# Altium footprint library SlaveLib.PcbLib: 14 footprints
Each footprint in its own frame and in the unit in brackets; x right, y up, seen from the top. Pads: shape width x height; smd on the part's side, far side on the other; paste and mask are expansions set on the pad; w line width, h text height; cw(c..) or ccw(c..) is an arc to the next point about the centre after c.
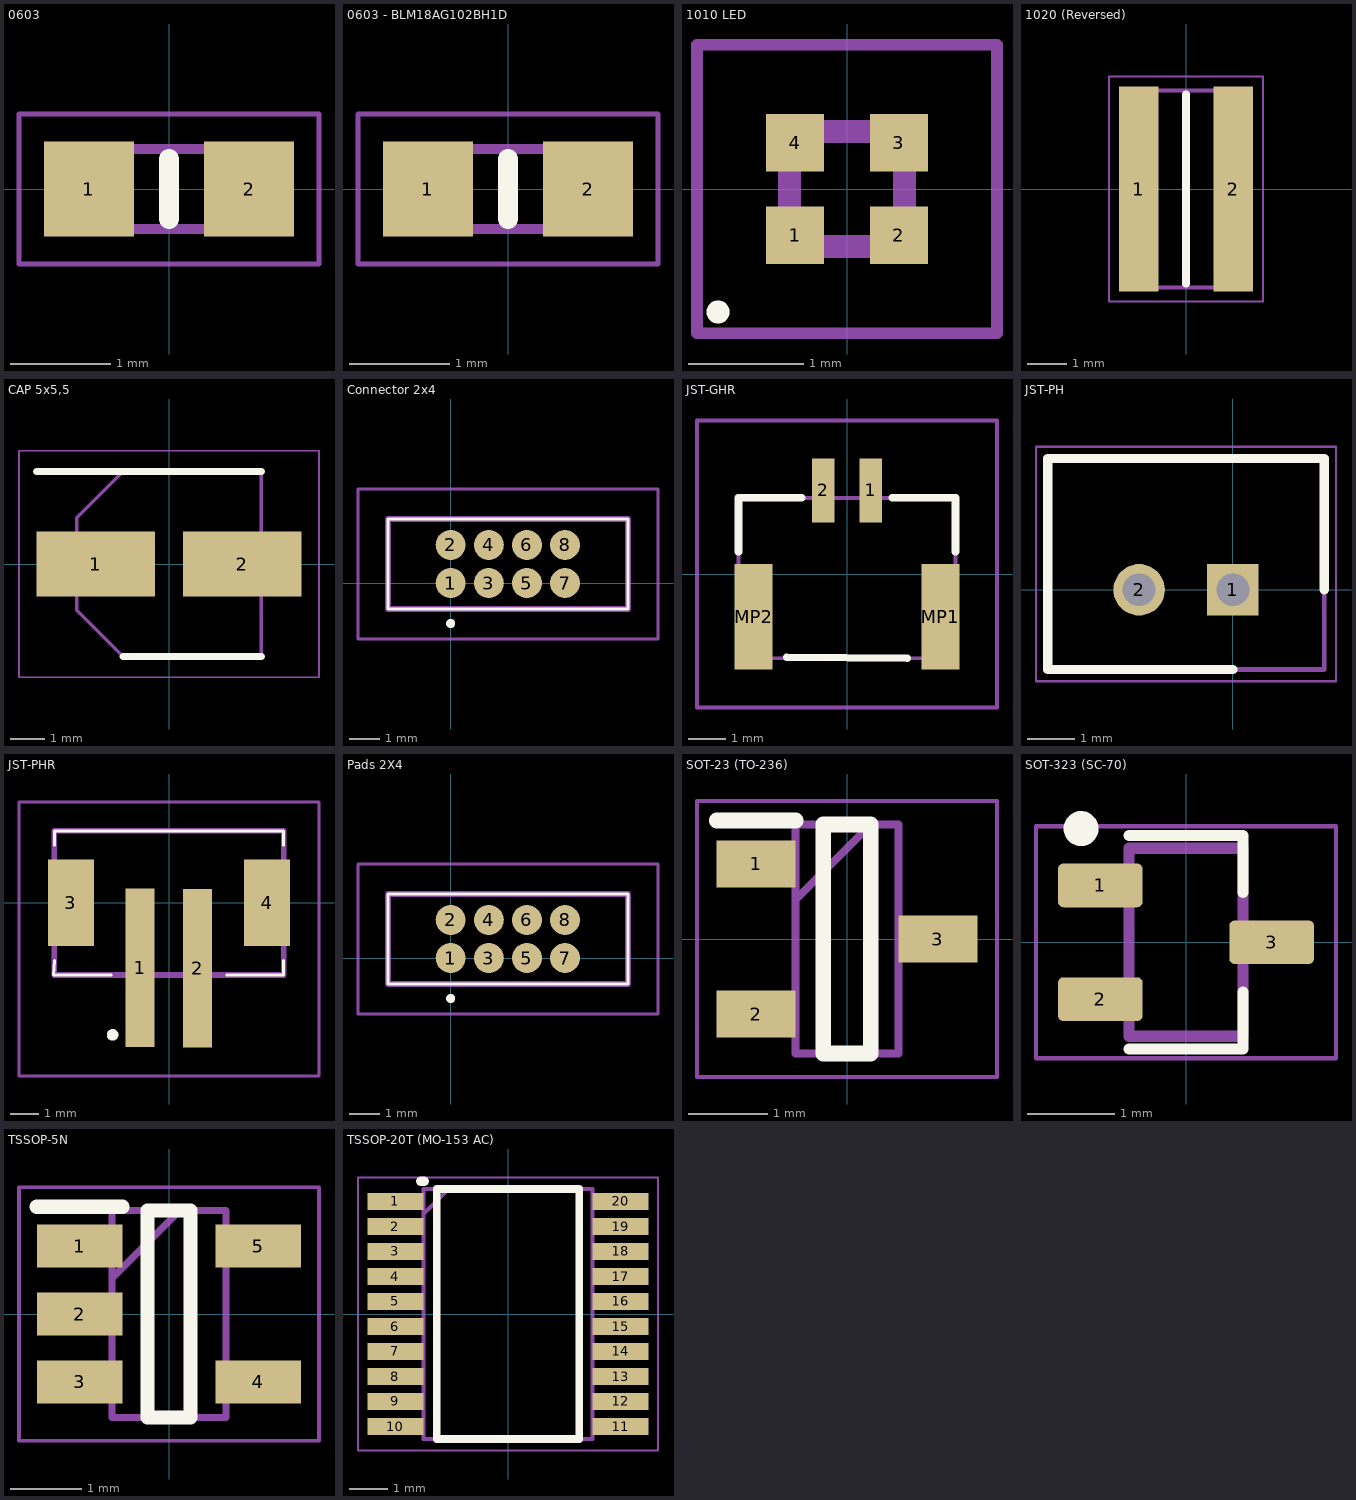
[diagram p0: the footprints below, top view; thin cyan lines are the x and y axes]

## 0603 [mm] "1608 Metric"
pads (2):
  rect 0.9x0.95 smd: 1(-0.8,0) 2(0.8,0)
Top Overlay:
  lines w0.2: 0,-0.3 0,0.3
Mechanical 13:
  lines w0.1: -0.8,-0.4 -0.8,0.4 0.8,0.4 0.8,-0.4 -0.8,-0.4
Mechanical 15:
  lines w0.05: -1.5,-0.75 -1.5,0.75 1.5,0.75 1.5,-0.75 -1.5,-0.75
3D body "CR0603-FX-2703ELF.stp": height 0.55, standoff 0, extent -0.8,-0.4 0.8,0.4

## 0603 - BLM18AG102BH1D [mm]
pads (2):
  rect 0.9x0.95 smd: 1(-0.8,0) 2(0.8,0)
Top Overlay:
  lines w0.2: 0,-0.3 0,0.3
Mechanical 13:
  lines w0.1: -0.8,-0.4 -0.8,0.4 0.8,0.4 0.8,-0.4 -0.8,-0.4
Mechanical 15:
  lines w0.05: -1.5,-0.75 -1.5,0.75 1.5,0.75 1.5,-0.75 -1.5,-0.75
3D body "BLM18BD221SN1D.stp": height 0.8, standoff 0, extent -0.8,-0.4 0.8,0.4

## 1010 LED [mm] "SMLP24MUWT86R"
pads (4):
  rect 0.5x0.5 smd: 1(-0.45,-0.4) 2(0.45,-0.4) 3(0.45,0.4) 4(-0.45,0.4)
Top Overlay:
  lines w0.1: -1.118,-1.116 ccw(c-1.118,-1.066) -1.118,-1.016 ccw(c-1.118,-1.066) -1.118,-1.116
Mechanical 13:
  lines w0.2: -0.5,-0.5 -0.5,0.5 0.5,0.5 0.5,-0.5 -0.5,-0.5
Mechanical 15:
  lines w0.1: -1.3,-1.25 -1.3,1.25 1.3,1.25 1.3,-1.25 -1.3,-1.25
3D body "SML-P24MUWT86R.stp": height 0.35, standoff 0, extent -0.5,-0.5 0.5,0.5

## 1020 (Reversed) [mm]
pads (2):
  rect 1x5.2 smd: 1(-1.2,0) 2(1.2,0)
Top Overlay:
  lines w0.2: 0,-2.4 0,2.4
Mechanical 13:
  lines w0.1: -1.25,-2.5 -1.25,2.5 1.25,2.5 1.25,-2.5 -1.25,-2.5
Mechanical 15:
  lines w0.05: -1.95,-2.85 -1.95,2.85 1.95,2.85 1.95,-2.85 -1.95,-2.85
3D body "LTR50UZPJ3R3.stp": height 0.73, standoff 0, extent -1.25,-2.5 1.25,2.5

## CAP 5x5,5 [mm]
pads (2):
  rect 3.4x1.85 smd: 1(-2.1,0) 2(2.1,0)
Top Overlay:
  lines w0.2: -3.8,2.65 2.65,2.65 ; -1.325,-2.65 2.65,-2.65
Mechanical 13:
  lines w0.1: -2.65,-1.325 -2.65,1.325 -1.325,2.65 2.65,2.65 2.65,-2.65 -1.325,-2.65 -2.65,-1.325
Mechanical 15:
  lines w0.05: -4.3,-3.25 4.3,-3.25 4.3,3.25 -4.3,3.25 -4.3,-3.25
3D body "NACE470M6.3V5X5.5TR13F.stp": height 5.5, standoff 0, extent -3.1,-2.75 3.1,2.75

## Connector 2x4 [mm]
pads (8):
  round 1 all layers, no hole: 1(0,0) 2(0,1.27) 3(1.27,0) 4(1.27,1.27) 5(2.54,0) 6(2.54,1.27) 7(3.81,0) 8(3.81,1.27)
Top Overlay:
  lines w0.1: -2.09,-0.865 5.91,-0.865 5.91,2.135 -2.09,2.135 -2.09,-0.865
  lines w0.2: 0,-1.4 cw(c0,-1.35) 0,-1.3 ; 0,-1.4 ccw(c0,-1.35) 0,-1.3 ; 0,-1.4 cw(c0,-1.35) 0,-1.3
Mechanical 13:
  lines w0.2: -2.09,-0.865 5.91,-0.865 5.91,2.135 -2.09,2.135 -2.09,-0.865
Mechanical 15:
  lines w0.1: -3.09,-1.865 6.91,-1.865 6.91,3.135 -3.09,3.135 -3.09,-1.865
3D body "855-22-008-10-001101.stp": height 6.37, standoff -5, extent -2.09,-0.865 5.91,2.135

## JST-GHR [mm]
pads (4):
  rect 0.6x1.7 smd: 1(0.625,2.225) 2(-0.625,2.225)
  rect 1x2.8 smd: MP1(2.475,-1.125) MP2(-2.475,-1.125)
Top Overlay:
  lines w0.2: -2.875,0.6 -2.875,2.025 -1.2,2.025 ; -1.6,-2.2 1.6,-2.225 ; 1.2,2.025 2.875,2.025 2.875,0.6
Mechanical 13:
  lines w0.1: -2.875,-2.225 -2.875,2.025 2.875,2.025 2.875,-2.225 -2.875,-2.225
Mechanical 15:
  lines w0.1: -3.975,-3.525 -3.975,4.075 3.975,4.075 3.975,-3.525 -3.975,-3.525
3D body "BM02B-GHHD-B-TBT_LF__SN_.stp": height 4.15, standoff 0, extent -2.875,-2.425 2.875,3.015

## JST-PH [mm]
pads (2):
  rect 1.1x1.1 hole 0.7: 1(0,0)
  round 1.1 hole 0.7: 2(-2,0)
Top Overlay:
  lines w0.2: 0,-1.7 -3.95,-1.7 -3.95,2.8 1.95,2.8 1.95,0
Mechanical 13:
  lines w0.1: -3.95,-1.7 1.95,-1.7 1.95,2.8 -3.95,2.8 -3.95,-1.7
Mechanical 15:
  lines w0.05: -4.2,-1.95 2.2,-1.95 2.2,3.05 -4.2,3.05 -4.2,-1.95
3D body "B2B-PH-K-S_LF__SN_.stp": height 6, standoff -3.4, extent -3.95,-2.25 1.95,2.25

## JST-PHR [mm]
pads (4):
  rect 1x5.5 smd: 1(-1,-2.25) 2(0.991,-2.261)
  rect 1.6x3 smd: 3(-3.4,0) 4(3.4,0)
Top Overlay:
  lines w0.1: -3.975,-2 -4,-2.5 -2,-2.5 ; -3.975,2 -3.975,2.5 3.975,2.5 3.975,2 ; 2,-2.5 3.975,-2.5 3.975,-2
  lines w0.2: -2.056,-4.572 ccw(c-1.956,-4.572) -1.856,-4.572 ccw(c-1.956,-4.572) -2.056,-4.572
Mechanical 13:
  lines w0.2: -3.975,-2.5 3.975,-2.5 3.975,2.5 -3.975,2.5 -3.975,-2.5
Mechanical 15:
  lines w0.1: -5.2,-6 5.2,-6 5.2,3.5 -5.2,3.5 -5.2,-6
3D body "B2B-PH-SM4-TB_LF__SN_.stp": height 6.8, standoff 0, extent -3.975,-4.5 3.975,2.5

## Pads 2X4 [mm]
pads (8):
  round 1 smd: 1(0,0) 2(0,1.27) 3(1.27,0) 4(1.27,1.27) 5(2.54,0) 6(2.54,1.27) 7(3.81,0) 8(3.81,1.27)
Top Overlay:
  lines w0.1: -2.09,-0.865 -2.09,2.135 5.91,2.135 5.91,-0.865 -2.09,-0.865
  lines w0.2: 0,-1.4 cw(c0,-1.35) 0,-1.3 ; 0,-1.4 ccw(c0,-1.35) 0,-1.3 ; 0,-1.4 cw(c0,-1.35) 0,-1.3
Mechanical 13:
  lines w0.2: -2.09,-0.865 -2.09,2.135 5.91,2.135 5.91,-0.865 -2.09,-0.865
Mechanical 15:
  lines w0.1: -3.09,-1.865 -3.09,3.135 6.91,3.135 6.91,-1.865 -3.09,-1.865

## SOT-23 (TO-236) [mm]
pads (3):
  rect 1x0.6 smd: 1(-1.15,0.95) 2(-1.15,-0.95) 3(1.15,0)
Top Overlay:
  lines w0.2: -1.65,1.5 -0.65,1.5 ; -0.3,-1.45 -0.3,1.45 0.3,1.45 0.3,-1.45 -0.3,-1.45
Mechanical 13:
  lines w0.1: -0.65,0.5 0.3,1.45 ; -0.65,-1.45 -0.65,1.45 0.65,1.45 0.65,-1.45 -0.65,-1.45
Mechanical 15:
  lines w0.05: -1.9,-1.75 -1.9,1.75 1.9,1.75 1.9,-1.75 -1.9,-1.75
3D body "XP234N0801TR-G.stp": height 1.15, standoff 0, extent -1.2,-1.45 1.2,1.45

## SOT-323 (SC-70) [mm]
pads (3):
  rrect25% 0.97x0.5 smd: 1(-0.98,0.65) 2(-0.98,-0.65) 3(0.98,0)
Top Overlay:
  circle w0.2: c-1.2,1.3 r0.1
  lines w0.127: -0.65,-1.22 0.65,-1.22 0.65,-0.57 ; -0.65,1.22 0.65,1.22 0.65,0.57
Mechanical 13:
  circle w0.2: c-1.2,1.3 r0.07
  lines w0.127: -0.65,-1.075 -0.65,1.075 0.65,1.075 0.65,-1.075 -0.65,-1.075
Mechanical 15:
  lines w0.05: -1.715,-1.325 1.715,-1.325 1.715,1.325 -1.715,1.325 -1.715,-1.325
3D body "step_temp.STEP": height 1.1, standoff 0, extent -1.05,-1 1.05,1

## TSSOP-5N [mm]
pads (5):
  rect 1.2x0.6 smd: 1(-1.25,0.95) 2(-1.25,0) 3(-1.25,-0.95) 4(1.25,-0.95) 5(1.25,0.95)
Top Overlay:
  lines w0.2: -1.85,1.5 -0.65,1.5 ; -0.3,-1.45 0.3,-1.45 0.3,1.45 -0.3,1.45 -0.3,-1.45
Mechanical 13:
  lines w0.1: -0.8,0.5 0.15,1.45 ; -0.8,-1.45 0.8,-1.45 0.8,1.45 -0.8,1.45 -0.8,-1.45
Mechanical 15:
  lines w0.05: -2.1,-1.775 2.1,-1.775 2.1,1.775 -2.1,1.775 -2.1,-1.775
3D body "LMV931IDBVRG4.stp": height 1.2, standoff 0, extent -1.4,-1.45 1.4,1.45

## TSSOP-20T (MO-153 AC) [mm]
pads (20):
  rect 1.45x0.45 smd: 1(-2.925,2.925) 2(-2.925,2.275) 3(-2.925,1.625) 4(-2.925,0.975) 5(-2.925,0.325) 6(-2.925,-0.325) 7(-2.925,-0.975) 8(-2.925,-1.625) 9(-2.925,-2.275) 10(-2.925,-2.925) 11(2.925,-2.925) 12(2.925,-2.275) 13(2.925,-1.625) 14(2.925,-0.975) 15(2.925,-0.325) 16(2.925,0.325) 17(2.925,0.975) 18(2.925,1.625) 19(2.925,2.275) 20(2.925,2.925)
Top Overlay:
  lines w0.2: -1.85,-3.25 1.85,-3.25 1.85,3.25 -1.85,3.25 -1.85,-3.25
  lines w0.254: -2.261,3.454 -2.186,3.454
Mechanical 13:
  lines w0.1: -2.2,2.6 -1.55,3.25 ; -2.2,-3.25 2.2,-3.25 2.2,3.25 -2.2,3.25 -2.2,-3.25
Mechanical 15:
  lines w0.05: -3.9,-3.55 3.9,-3.55 3.9,3.55 -3.9,3.55 -3.9,-3.55
3D body "74LCX240MTC.stp": height 1.2, standoff 0, extent -3.2,-3.25 3.2,3.25